# Altium footprint library SHDR14W65P254_2X7_2012X975X1110P.PcbLib: 1 footprints
Each footprint in its own frame and in the unit in brackets; x right, y up, seen from the top. Pads: shape width x height; smd on the part's side, far side on the other; paste and mask are expansions set on the pad; w line width, h text height; cw(c..) or ccw(c..) is an arc to the next point about the centre after c.
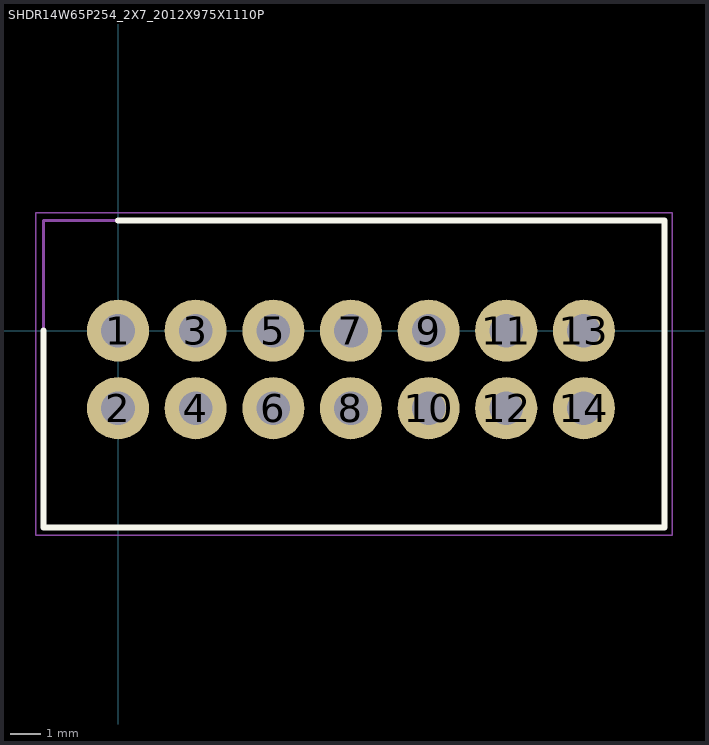
[diagram p0: the footprint, top view; thin cyan lines are the x and y axes]

## SHDR14W65P254_2X7_2012X975X1110P [mil]
pads (14):
  round 80 hole 43.31: 1(0,0) 2(0,-100) 3(100,0) 4(100,-100) 5(200,0) 6(200,-100) 7(300,0) 8(300,-100) 9(400,0) 10(400,-100) 11(500,0) 12(500,-100) 13(600,0) 14(600,-100)
Top Overlay:
  lines w7.87: -96.06,0 -96.06,-253.74 703.94,-253.74 703.94,141.93 0,141.93
Mechanical 15:
  lines w3.94: -96.06,-253.74 -96.06,141.93 703.94,141.93 703.94,-253.74 -96.06,-253.74
Mechanical 20:
  lines w1.97: -105.91,-263.58 -105.91,151.77 713.78,151.77 713.78,-263.58 -105.91,-263.58